# EAGLE library part FXOS8700CQ (library _microMouse)
6D 6axis sensor - 3D accelerator and 3D magnetometer
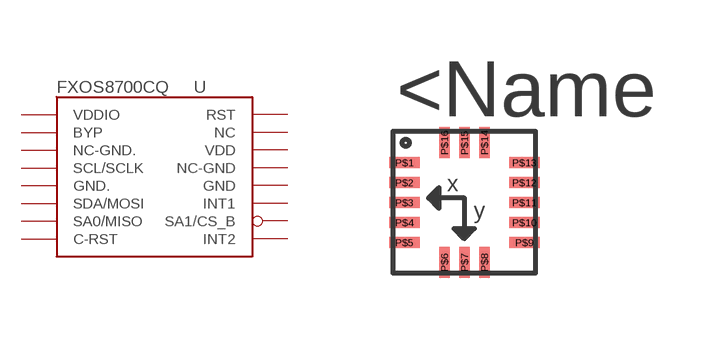
[diagram p0: symbol with the pads of QFN16-5X3; footprint QFN16-5X3]

Designator prefix U

## FXOS8700CQR1  [QFN16-5X3]
P$1  VDDIO  pwr
P$2  BYP
P$3  NC-GND.  in
P$4  SCL/SCLK  in
P$5  GND.  pwr
P$6  SDA/MOSI  in
P$7  SA0/MISO  out
P$8  C-RST
P$9  INT2  out
P$10  SA1/CS_B  in
P$11  INT1  out
P$12  GND  pwr
P$13  NC-GND  in
P$14  VDD  pwr
P$15  NC  nc
P$16  RST  in

## Footprint QFN16-5X3 (pad centres in mm)
restricted area under chip
smd 0.77 x 0.27: P$1 -1.497,0.989; P$2 -1.497,0.489; P$3 -1.497,-0.011; P$4 -1.497,-0.511; P$5 -1.497,-1.011; P$9 1.503,-1.011; P$10 1.503,-0.511; P$11 1.503,-0.011; P$12 1.503,0.489; P$13 1.503,0.989
smd 0.27 x 0.77: P$6 -0.497,-1.511; P$7 0.003,-1.511; P$8 0.503,-1.511; P$14 0.503,1.489; P$15 0.003,1.489; P$16 -0.497,1.489